# Altium schematic symbol library CC2564MODN.SchLib: 1 symbol
Pins are listed as number, name and electrical type; pins without a type are passive.

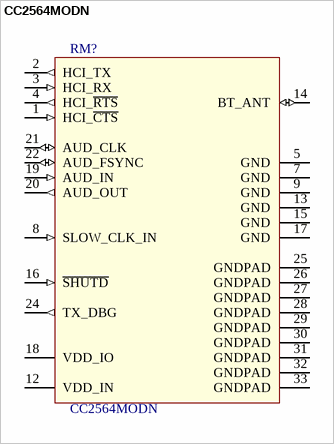
[diagram p0: symbol CC2564MODN]

## CC2564MODN
designator RM?
CC2564MODN Bluetooth® Host Controller Interface (HCI) Module; value: CC2564MODN
footprint QFM-33 (QFM - 1.4 mm max height)
pins: 1 HCI_~{CTS} (in), 2 HCI_TX (out), 3 HCI_RX (in), 4 HCI_~{RTS} (out), 5 GND (power), 7 GND (power), 8 SLOW_CLK_IN (in), 9 GND (power), 12 VDD_IN (power) "Main power supply for the module (2.2 to 4.8 V)", 13 GND (power), 14 BT_ANT (io), 15 GND (power), 16 ~{SHUTD} (in), 17 GND (power), 18 VDD_IO (power) "I/O power supply (1.8 V nominal)", 19 AUD_IN (in) "PCM data input", 20 AUD_OUT (out) "PCM data output", 21 AUD_CLK (io) "PCM clock", 22 AUD_FSYNC (io) "PCM frame sync", 24 TX_DBG (out), 25 GNDPAD (power), 26 GNDPAD (power), 27 GNDPAD (power), 28 GNDPAD (power), 29 GNDPAD (power), 30 GNDPAD (power), 31 GNDPAD (power), 32 GNDPAD (power), 33 GNDPAD (power)